# Altium integrated library Libreria-Transistores.IntLib: 9 symbols
Pins are listed as number, name and electrical type; pins without a type are passive.

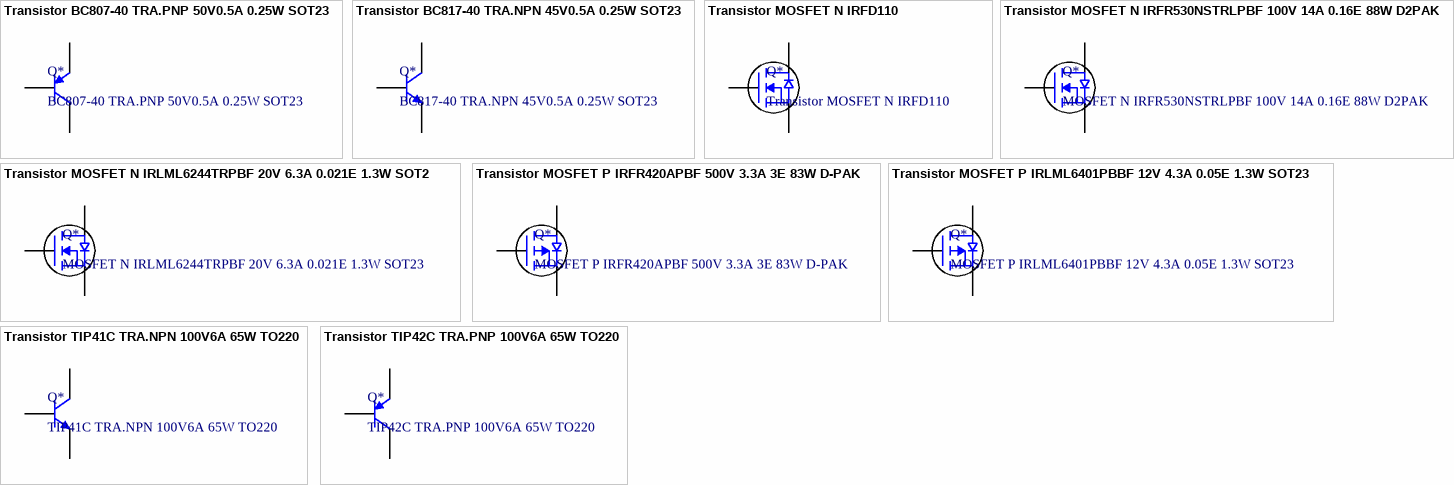
[diagram p0: symbols Transistor BC807-40 TRA.PNP 50V0.5A 0.25W SOT23 to Transistor TIP42C TRA.PNP 100V6A 65W TO220]

## Transistor BC807-40 TRA.PNP 50V0.5A 0.25W SOT23
designator Q*, comment BC807-40 TRA.PNP 50V0.5A 0.25W SOT23
COD. ELEMON: TR1723000; COD. FV: CE.TRA.0001
footprint NPN.SMD.SOT23 (Transistor NPN 0.25W SOT23)
pins: 1 B, 2 E, 3 C

## Transistor BC817-40 TRA.NPN 45V0.5A 0.25W SOT23
designator Q*, comment BC817-40 TRA.NPN 45V0.5A 0.25W SOT23
COD. ELEMON: TR1723020; COD. FV: CE.TRA.0002
footprint NPN.SMD.SOT23 (Transistor NPN 0.25W SOT23)
pins: 1 B, 2 E, 3 C

## Transistor MOSFET N IRFD110
designator Q*
COD. FV: CE.TRA.0003
footprint TRA-IRFD110
pins: 1, 2, 3, 4

## Transistor MOSFET N IRFR530NSTRLPBF 100V 14A 0.16E 88W D2PAK
designator Q*, comment MOSFET N IRFR530NSTRLPBF 100V 14A 0.16E 88W D2PAK
COD. ELEMON: TR2003074
footprint MOS.N.SMD.D2PAK (MOSFET CANAL N D2PAK)
pins: D, G, S

## Transistor MOSFET N IRLML6244TRPBF 20V 6.3A 0.021E 1.3W SOT23
designator Q*, comment MOSFET N IRLML6244TRPBF 20V 6.3A 0.021E 1.3W SOT23
COD. ELEMON: TR2002030
footprint MOS.N.SMD.SOT23 (MOSFET CANAL N SOT23)
pins: D, G, S

## Transistor MOSFET P IRFR420APBF 500V 3.3A 3E 83W D-PAK
designator Q*, comment MOSFET P IRFR420APBF 500V 3.3A 3E 83W D-PAK
COD. ELEMON: TR2003123
footprint MOS.N.SMD.DPAK (MOSFET CANAL N DPAK)
pins: D, G, S

## Transistor MOSFET P IRLML6401PBBF 12V 4.3A 0.05E 1.3W SOT23
designator Q*, comment MOSFET P IRLML6401PBBF 12V 4.3A 0.05E 1.3W SOT23
COD. ELEMON: TR2002000
footprint MOS.P.SMD.SOT23 (MOSFET CANAL P SOT23)
pins: D, G, S

## Transistor TIP41C TRA.NPN 100V6A 65W TO220
designator Q*, comment TIP41C TRA.NPN 100V6A 65W TO220
COD. ELEMON: TR1753110
footprint TIP41C (NPN TO220 TRANSISTOR)
pins: 1 B, 2 C, 3 E

## Transistor TIP42C TRA.PNP 100V6A 65W TO220
designator Q*, comment TIP42C TRA.PNP 100V6A 65W TO220
COD. ELEMON: TR1753120
footprint TIP42C (PNP TO220 TRANSISTOR)
pins: 1 B, 2 C, 3 E